# EAGLE library part MC33161 (library bootstrapsolar)
MC33161, MC34161 Universal Voltage Monitors
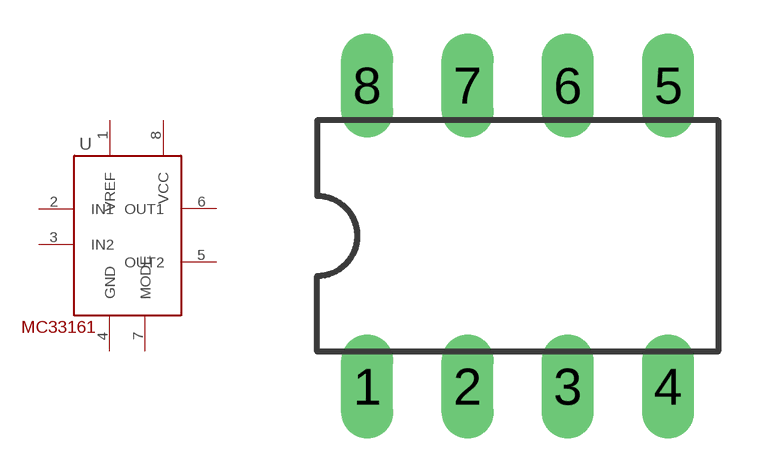
[diagram p0: symbol with the pads of 8DIP; footprint 8DIP]

Designator prefix -

## MC33161  [8DIP]
1  VREF  pas
2  IN1  in
3  IN2  in
4  GND  in
5  OUT2  out
6  OUT1  out
7  MODE  pas
8  VCC  in

## Footprint 8DIP (pad centres in mm)
drill 0.813 long: 1 -3.81,-3.81; 2 -1.27,-3.81; 3 1.27,-3.81; 4 3.81,-3.81; 5 3.81,3.81; 6 1.27,3.81; 7 -1.27,3.81; 8 -3.81,3.81